# Altium schematic symbol library TerSat.SchLib: 3 symbols
Pins are listed as number, name and electrical type; pins without a type are passive.

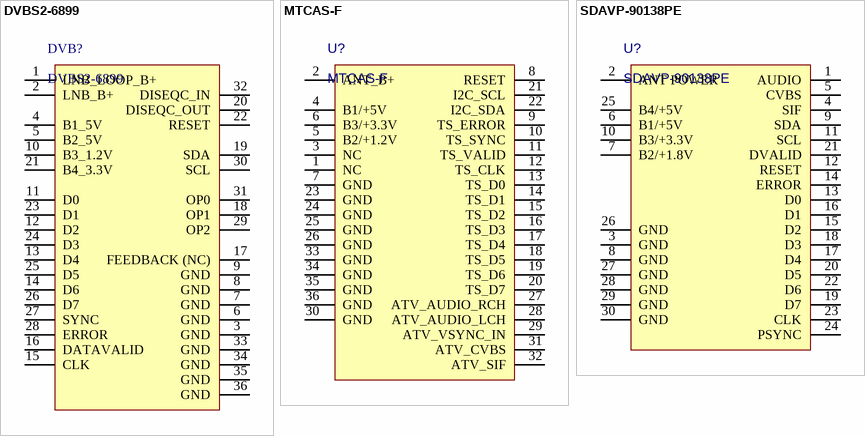
[diagram p0: symbols DVBS2-6899 to SDAVP-90138PE]

## DVBS2-6899
designator DVB?
Value: DVBS2-6899
pins: 1 LNB_LOOP_B+, 2 LNB_B+, 3 GND, 4 B1_5V, 5 B2_5V, 6 GND, 7 GND, 8 GND, 9 GND, 10 B3_1.2V, 11 D0, 12 D2, 13 D4, 14 D6, 15 CLK, 16 DATAVALID, 17 FEEDBACK (NC), 18 OP1, 19 SDA, 20 DISEQC_OUT, 21 B4_3.3V, 22 RESET, 23 D1, 24 D3, 25 D5, 26 D7, 27 SYNC, 28 ERROR, 29 OP2, 30 SCL, 31 OP0, 32 DISEQC_IN, 33 GND, 34 GND, 35 GND, 36 GND

## MTCAS-F
designator U?
Value: MTCAS-F
pins: 1 NC, 2 ANT_B+, 3 NC, 4 B1/+5V, 5 B2/+1.2V, 6 B3/+3.3V, 7 GND, 8 RESET, 9 TS_ERROR, 10 TS_SYNC, 11 TS_VALID, 12 TS_CLK, 13 TS_D0, 14 TS_D1, 15 TS_D2, 16 TS_D3, 17 TS_D4, 18 TS_D5, 19 TS_D6, 20 TS_D7, 21 I2C_SCL, 22 I2C_SDA, 23 GND, 24 GND, 25 GND, 26 GND, 27 ATV_AUDIO_RCH, 28 ATV_AUDIO_LCH, 29 ATV_VSYNC_IN, 30 GND, 31 ATV_CVBS, 32 ATV_SIF, 33 GND, 34 GND, 35 GND, 36 GND

## SDAVP-90138PE
designator U?
Value: SDAVP-90138PE
pins: 1 AUDIO, 2 ANT POWER, 3 GND, 4 SIF, 5 CVBS, 6 B1/+5V, 7 B2/+1.8V, 8 GND, 9 SDA, 10 B3/+3.3V, 11 SCL, 12 RESET, 13 D0, 14 ERROR, 15 D2, 16 D1, 17 D4, 18 D3, 19 D7, 20 D5, 21 DVALID, 22 D6, 23 CLK, 24 PSYNC, 25 B4/+5V, 26 GND, 27 GND, 28 GND, 29 GND, 30 GND